# EAGLE library part CNRP100A (library KS-SCH-01466-01 OSSAT_OBC_Dev_Board_Library)
2 Row Skt-Strip 2.54P Samtec ESQ-nnn-12-G-D
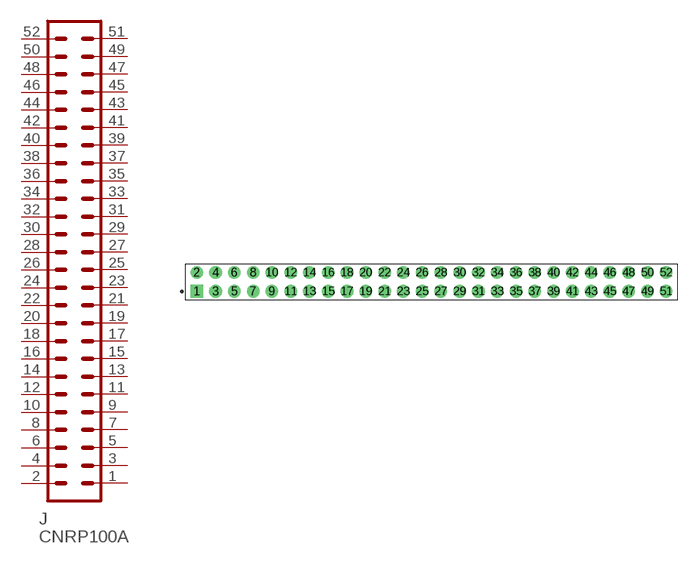
[diagram p4: symbol with the pads of HDRVR52W64P254_2X26_6655X495X1105B; footprint HDRVR52W64P254_2X26_6655X495X1105B]

Designator prefix J

## CNRP100A_52F_2ROW_SKT-STRIP_2.54P (TYPE: 2 ROW SKT-STRIP)  [HDRVR52W64P254_2X26_6655X495X1105B]
1  1  pas
2  2  pas
3  3  pas
4  4  pas
5  5  pas
6  6  pas
7  7  pas
8  8  pas
9  9  pas
10  10  pas
11  11  pas
12  12  pas
13  13  pas
14  14  pas
15  15  pas
16  16  pas
17  17  pas
18  18  pas
19  19  pas
20  20  pas
21  21  pas
22  22  pas
23  23  pas
24  24  pas
25  25  pas
26  26  pas
27  27  pas
28  28  pas
29  29  pas
30  30  pas
31  31  pas
32  32  pas
33  33  pas
34  34  pas
35  35  pas
36  36  pas
37  37  pas
38  38  pas
39  39  pas
40  40  pas
41  41  pas
42  42  pas
43  43  pas
44  44  pas
45  45  pas
46  46  pas
47  47  pas
48  48  pas
49  49  pas
50  50  pas
51  51  pas
52  52  pas

## Footprint HDRVR52W64P254_2X26_6655X495X1105B (pad centres in mm)
Double-row, 52-pin Receptacle Header (Female) Straight, 2.54 mm (0.10 in) row pitch, 2.54 mm (0.10 in) col pitch, 11.05 mm insulator length, 66.55 X 4.95 X 11.05 mm body Double-row (2X26), 52-pin Receptacle Header (Female) Straight package with 2.54 mm (0.10 in) row pitch, 2.54 mm (0.10 in) col pitch, 0.64 mm lead width, 2.29 mm tail length and 11.05 mm insulator length with overall size 66.55 X 4.95 X 11.05 mm, pin pattern - zigzag from bottom left
drill 1.105 pad 1.705 square: 1 0,0
drill 1.105 pad 1.705: 2 0,2.54; 3 2.54,0; 4 2.54,2.54; 5 5.08,0; 6 5.08,2.54; 7 7.62,0; 8 7.62,2.54; 9 10.16,0; 10 10.16,2.54; 11 12.7,0; 12 12.7,2.54; 13 15.24,0; 14 15.24,2.54; 15 17.78,0; 16 17.78,2.54; 17 20.32,0; 18 20.32,2.54; 19 22.86,0; 20 22.86,2.54; 21 25.4,0; 22 25.4,2.54; 23 27.94,0; 24 27.94,2.54; 25 30.48,0; 26 30.48,2.54; 27 33.02,0; 28 33.02,2.54; 29 35.56,0; 30 35.56,2.54; 31 38.1,0; 32 38.1,2.54; 33 40.64,0; 34 40.64,2.54; 35 43.18,0; 36 43.18,2.54; 37 45.72,0; 38 45.72,2.54; 39 48.26,0; 40 48.26,2.54; 41 50.8,0; 42 50.8,2.54; 43 53.34,0; 44 53.34,2.54; 45 55.88,0; 46 55.88,2.54; 47 58.42,0; 48 58.42,2.54; 49 60.96,0; 50 60.96,2.54; 51 63.5,0; 52 63.5,2.54